# Altium footprint library HC0506_SMD.PcbLib: 1 footprints
Each footprint in its own frame and in the unit in brackets; x right, y up, seen from the top. Pads: shape width x height; smd on the part's side, far side on the other; paste and mask are expansions set on the pad; w line width, h text height; cw(c..) or ccw(c..) is an arc to the next point about the centre after c.
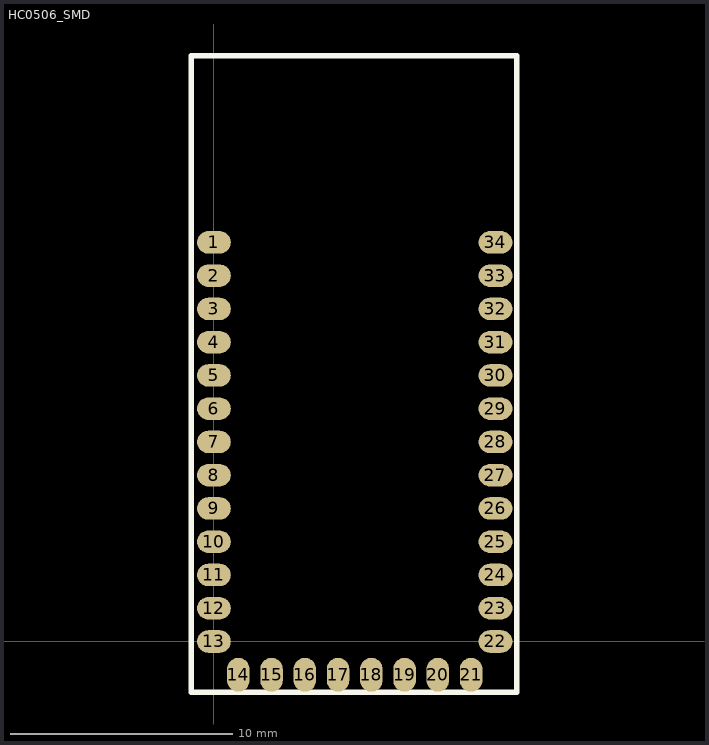
[diagram p0: the footprint, top view; thin cyan lines are the x and y axes]

## HC0506_SMD [mil]
pads (34):
  oval 60x40 smd: 1(0,708.66) 2(0,649.61) 3(0,590.55) 4(0,531.5) 5(0,472.44) 6(0,413.39) 7(0,354.33) 8(0,295.28) 9(0,236.22) 10(0,177.17) 11(0,118.11) 12(0,59.06) 13(0,0) 22(500,0) 23(500,59.06) 24(500,118.11) 25(500,177.17) 26(500,236.22) 27(500,295.28) 28(500,354.33) 29(500,413.39) 30(500,472.44) 31(500,531.5) 32(500,590.55) 33(500,649.61) 34(500,708.66)
  oval 40x60 smd: 14(43.31,-59.06) 15(102.36,-59.06) 16(161.42,-59.06) 17(220.47,-59.06) 18(279.53,-59.06) 19(338.58,-59.06) 20(397.64,-59.06) 21(456.69,-59.06)
Top Overlay:
  lines w10: -40,-90 537.5,-90 537.5,1032.5 537.5,1040 -25,1040 -40,1040 -40,-90
3D body "Bluetooth HC-06_.STEP": height 92.52, standoff 0, extent -26.97,-71.38 525,1031.38